# EAGLE library part TXS02612 (library TXS02612)
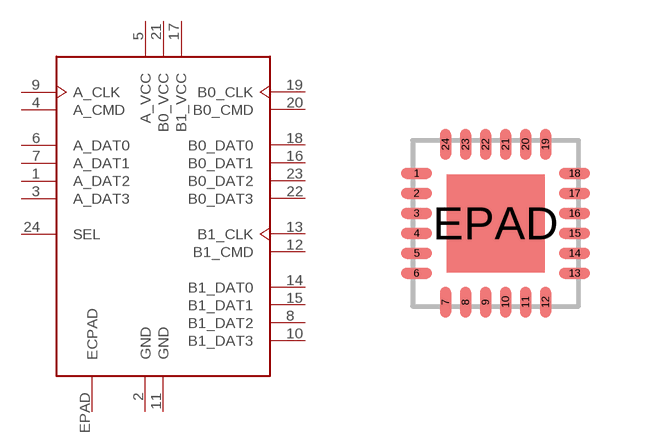
[diagram p0: symbol with the pads of S-PWQFN-N24; footprint S-PWQFN-N24]

Designator prefix -

## TXS02612  [S-PWQFN-N24]
1  A_DAT2
2  GND  pwr
3  A_DAT3
4  A_CMD
5  A_VCC  pwr
6  A_DAT0
7  A_DAT1
8  B1_DAT2
9  A_CLK  in
10  B1_DAT3
11  GND  pwr
12  B1_CMD
13  B1_CLK  out
14  B1_DAT0
15  B1_DAT1
16  B0_DAT1
17  B1_VCC  pwr
18  B0_DAT0
19  B0_CLK  out
20  B0_CMD
21  B0_VCC  pwr
22  B0_DAT3
23  B0_DAT2
24  SEL  in
EPAD  ECPAD  pwr

## Footprint S-PWQFN-N24 (pad centres in mm)
Footprint of the S-PWQFN-N24 package. Dimensions from datasheet: http://www.ti.com/lit/ds/symlink/txs02612.pdf
smd 0.78 x 0.28: 1 -1.975,1.25; 2 -1.975,0.75; 3 -1.975,0.25; 4 -1.975,-0.25; 5 -1.975,-0.75; 6 -1.975,-1.25; 13 1.975,-1.25; 14 1.975,-0.75; 15 1.975,-0.25; 16 1.975,0.25; 17 1.975,0.75; 18 1.975,1.25
smd 0.28 x 0.78: 7 -1.25,-1.975; 8 -0.75,-1.975; 9 -0.25,-1.975; 10 0.25,-1.975; 11 0.75,-1.975; 12 1.25,-1.975; 19 1.25,1.975; 20 0.75,1.975; 21 0.25,1.975; 22 -0.25,1.975; 23 -0.75,1.975; 24 -1.25,1.975
smd 2.45 x 2.45: EPAD 0,0